# Altium schematic symbol library 2020-01-08_00-25-35.SchLib: 2 symbols
Pins are listed as number, name and electrical type; pins without a type are passive.

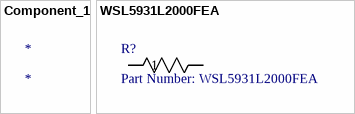
[diagram p0: symbols Component_1 to WSL5931L2000FEA]

## Component_1
designator *

## WSL5931L2000FEA
designator R?, comment Part Number: WSL5931L2000FEA
No Description Available; Vendor: Vishay; Built_By: EMA_UL_Team; Manufacturer_Part_Number: WSL5931L2000FEA; Copyright: Copyright (C) 2018 Accelerated Designs. All rights reserved; RefDes: RefDes; Type: DEV; Value: Value
footprint W-5931
pins: 1, 2